# EAGLE library part PINHD-2X11 (library shepherd)
PIN HEADER
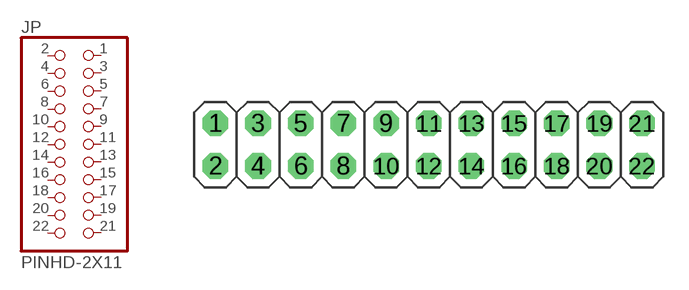
[diagram p33: symbol with the pads of 2X11; footprint 2X11]

Designator prefix JP

## PINHD-2X11  [2X11]
1  2  pas
2  1  pas
3  4  pas
4  3  pas
5  6  pas
6  5  pas
7  8  pas
8  7  pas
9  10  pas
10  9  pas
11  12  pas
12  11  pas
13  14  pas
14  13  pas
15  16  pas
16  15  pas
17  18  pas
18  17  pas
19  20  pas
20  19  pas
21  22  pas
22  21  pas

## Footprint 2X11 (pad centres in mm)
PIN HEADER
drill 1.016 octagon: 1 -12.7,1.27; 2 -12.7,-1.27; 3 -10.16,1.27; 4 -10.16,-1.27; 5 -7.62,1.27; 6 -7.62,-1.27; 7 -5.08,1.27; 8 -5.08,-1.27; 9 -2.54,1.27; 10 -2.54,-1.27; 11 0,1.27; 12 0,-1.27; 13 2.54,1.27; 14 2.54,-1.27; 15 5.08,1.27; 16 5.08,-1.27; 17 7.62,1.27; 18 7.62,-1.27; 19 10.16,1.27; 20 10.16,-1.27; 21 12.7,1.27; 22 12.7,-1.27